# Altium footprint library WQFN_RUM16.PcbLib: 1 footprints
Each footprint in its own frame and in the unit in brackets; x right, y up, seen from the top. Pads: shape width x height; smd on the part's side, far side on the other; paste and mask are expansions set on the pad; w line width, h text height; cw(c..) or ccw(c..) is an arc to the next point about the centre after c.
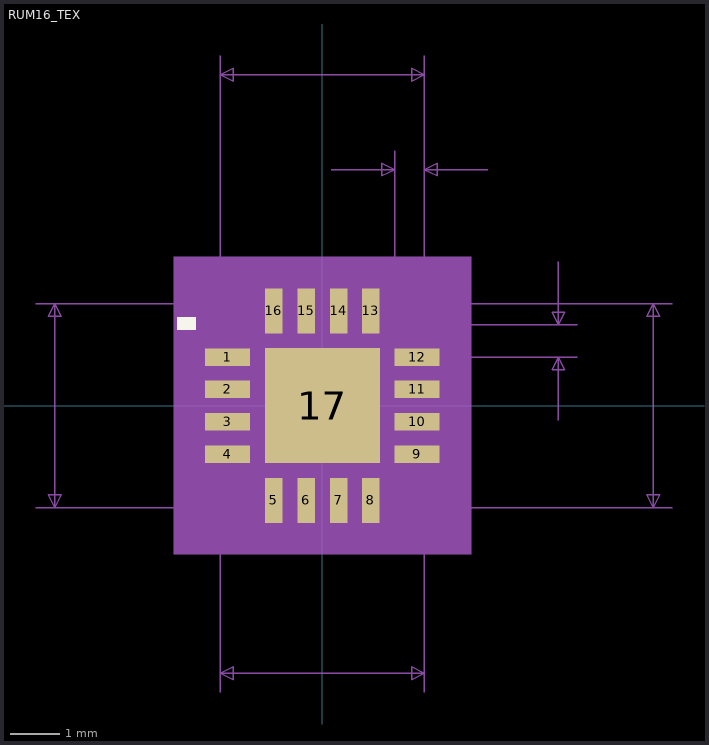
[diagram p0: the footprint, top view; thin cyan lines are the x and y axes]

## RUM16_TEX [mm]
pads (17):
  rect 0.905x0.35 smd paste+0 mask+0: 1(-1.902,0.975) 2(-1.902,0.325) 3(-1.902,-0.325) 4(-1.902,-0.975) 9(1.902,-0.975) 10(1.902,-0.325) 11(1.902,0.325) 12(1.902,0.975)
  rect 0.35x0.905 smd paste+0 mask+0: 5(-0.975,-1.902) 6(-0.325,-1.902) 7(0.325,-1.902) 8(0.975,-1.902) 13(0.975,1.902) 14(0.325,1.902) 15(-0.325,1.902) 16(-0.975,1.902)
  rect 2.311x2.311 smd paste-1.143 mask+0: 17(0,0)
Top Overlay:
  region: -2.54,1.778 -2.921,1.778 -2.921,1.524 -2.54,1.524
Top Paste:
  region: -1.45,2.15 -1.75,2.15 -1.75,1.775 -2.175,1.775 -2.175,1.475 -1.45,1.475
  region: 1.45,1.475 1.45,2.15 1.75,2.15 1.75,1.775 2.175,1.775 2.175,1.475
  region: 1.75,-2.15 1.45,-2.15 1.45,-1.475 2.175,-1.475 2.175,-1.775 1.75,-1.775
  region: 1.156,1.156 -1.156,1.156 -1.156,-1.156 1.156,-1.156
  region: -1.75,-2.15 -1.45,-2.15 -1.45,-1.475 -2.175,-1.475 -2.175,-1.775 -1.75,-1.775
Top Solder:
  region: -1.45,2.15 -1.75,2.15 -1.75,1.775 -2.175,1.775 -2.175,1.475 -1.45,1.475
  region: 1.45,1.475 1.45,2.15 1.75,2.15 1.75,1.775 2.175,1.775 2.175,1.475
  region: -1.75,-2.15 -1.45,-2.15 -1.45,-1.475 -2.175,-1.475 -2.175,-1.775 -1.75,-1.775
  region: 1.75,-2.15 1.45,-2.15 1.45,-1.475 2.175,-1.475 2.175,-1.775 1.75,-1.775
Mechanical 5:
  region: 2.99,-2.99 -2.99,-2.99 -2.99,2.99 2.99,2.99
Mechanical 7:
  lines w0.025: -5.758,-2.05 2.05,-2.05 ; -5.758,2.05 2.05,2.05 2.05,-5.758 ; -2.05,-5.758 -2.05,2.05 ; -2.05,1.625 -2.05,7.028 ; 0.18,4.742 1.45,4.742 ; 1.45,1.625 1.45,5.123 ; 1.625,-2.05 7.028,-2.05 ; 1.625,2.05 7.028,2.05 ; 1.902,0.975 5.123,0.975 ; 1.902,1.625 5.123,1.625 ; 2.05,5.123 2.05,1.625 2.05,7.028 ; 3.32,4.742 2.05,4.742 ; 4.742,-0.295 4.742,0.975 ; 4.742,2.895 4.742,1.625 ; -5.377,-2.05 -5.377,2.05 ; -5.377,-2.05 -5.504,-1.796 -5.25,-1.796 -5.377,-2.05 ; -5.377,2.05 -5.504,1.796 -5.25,1.796 -5.377,2.05 ; -2.05,-5.377 2.05,-5.377 ; -2.05,-5.377 -1.796,-5.25 -1.796,-5.504 -2.05,-5.377 ; -2.05,6.647 2.05,6.647 ; -2.05,6.647 -1.796,6.774 -1.796,6.52 -2.05,6.647 ; 1.45,4.742 1.196,4.869 1.196,4.615 1.45,4.742 ; 2.05,-5.377 1.796,-5.25 1.796,-5.504 2.05,-5.377 ; 2.05,4.742 2.304,4.869 2.304,4.615 2.05,4.742 ; 2.05,6.647 1.796,6.774 1.796,6.52 2.05,6.647 ; 4.742,0.975 4.615,0.721 4.869,0.721 4.742,0.975 ; 4.742,1.625 4.615,1.879 4.869,1.879 4.742,1.625 ; 6.647,-2.05 6.647,2.05 ; 6.647,-2.05 6.52,-1.796 6.774,-1.796 6.647,-2.05 ; 6.647,2.05 6.52,1.796 6.774,1.796 6.647,2.05
  text "Default Padstyle: RX35p62Y13p78D0T" at -10.795,-10.229 h1.27
  text "Heat Tab Padstyle: RX91Y91D0T" at -9.207,-11.753 h1.27
  text "Alt 1 Padstyle: RX28p54Y11p81D0T" at -10.16,-14.801 h1.27
  text "Alt 2 Padstyle: RX14p76Y11p81D0T" at -10.16,-16.325 h1.27
  text "0.026in/0.65mm" at 5.25,0.982 h0.64
  text "0.024in/0.6mm" at -0.314,5.25 h0.64
  text "0.161in/4.1mm" at -2.064,7.155 h0.64
  text "0.161in/4.1mm" at 7.155,-0.318 h0.64
  text "0.161in/4.1mm" at -10.013,-0.318 h0.64
  text "0.161in/4.1mm" at -2.064,-6.52 h0.64
Mechanical 13:
  lines w0.025: -2.05,0.78 -0.78,2.05 ; -2.05,-2.05 2.05,-2.05 2.05,2.05 -2.05,2.05 -2.05,-2.05 ; -2.05,-1.8 -2.05,-1.45 -2.05,-1.8 ; -2.05,-1.15 -2.05,-0.8 -2.05,-1.15 ; -2.05,-0.5 -2.05,-0.15 -2.05,-0.5 ; -2.05,0.15 -2.05,0.5 -2.05,0.15 ; -2.05,0.8 -2.05,1.15 -2.05,0.8 ; -2.05,1.45 -2.05,1.8 -2.05,1.45 ; -1.8,-2.05 -1.45,-2.05 -1.8,-2.05 ; -1.8,2.05 -1.45,2.05 -1.8,2.05 ; -1.15,-2.05 -0.8,-2.05 -1.15,-2.05 ; -1.15,2.05 -0.8,2.05 -1.15,2.05 ; -0.5,-2.05 -0.15,-2.05 -0.5,-2.05 ; -0.5,2.05 -0.15,2.05 -0.5,2.05 ; 0.15,-2.05 0.5,-2.05 0.15,-2.05 ; 0.15,2.05 0.5,2.05 0.15,2.05 ; 0.8,-2.05 1.15,-2.05 0.8,-2.05 ; 0.8,2.05 1.15,2.05 0.8,2.05 ; 1.45,-2.05 1.8,-2.05 1.45,-2.05 ; 1.45,2.05 1.8,2.05 1.45,2.05 ; 2.05,-1.8 2.05,-1.45 2.05,-1.8 ; 2.05,-1.15 2.05,-0.8 2.05,-1.15 ; 2.05,-0.5 2.05,-0.15 2.05,-0.5 ; 2.05,0.15 2.05,0.5 2.05,0.15 ; 2.05,0.8 2.05,1.15 2.05,0.8 ; 2.05,1.45 2.05,1.8 2.05,1.45
  text "*" at -1.473,0.521 h1.27
Mechanical 15:
  region: -1.95,-2.304 -2.304,-2.304 -2.304,-1.95 -2.604,-1.95 -2.604,1.95 -2.304,1.95 -2.304,2.304 -1.95,2.304 -1.95,2.604 1.95,2.604 1.95,2.304 2.304,2.304 2.304,1.95 2.604,1.95 2.604,-1.95 2.304,-1.95 2.304,-2.304 1.95,-2.304 1.95,-2.604 -1.95,-2.604
  lines w0.152: -2.604,-1.95 -2.304,-1.95 -2.304,-2.304 -1.95,-2.304 -1.95,-2.604 1.95,-2.604 1.95,-2.304 2.304,-2.304 2.304,-1.95 2.604,-1.95 2.604,1.95 2.304,1.95 2.304,2.304 1.95,2.304 1.95,2.604 -1.95,2.604 -1.95,2.304 -2.304,2.304 -2.304,1.95 -2.604,1.95 -2.604,-1.95
3D body "WQFN_RUM16.stp": height 0.8, standoff 0, extent -2,-2 2,2
3D body "WQFN_RUM16.stp": height 0.8, standoff 0, extent -2.032,-2.032 1.968,1.968